# Altium schematic symbol library MAL219691253E3.SchLib: 2 symbols
Pins are listed as number, name and electrical type; pins without a type are passive.

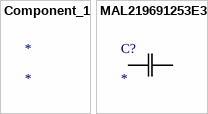
[diagram p0: symbols Component_1 to MAL219691253E3]

## Component_1
designator *

## MAL219691253E3
designator C?
No Description Available; Mfr_Name: Vishay
footprint CAP_MAL219691253E3_VIS
pins: 1, 2